# Altium footprint library KMR232NGULCLFS.PcbLib: 1 footprints
Each footprint in its own frame and in the unit in brackets; x right, y up, seen from the top. Pads: shape width x height; smd on the part's side, far side on the other; paste and mask are expansions set on the pad; w line width, h text height; cw(c..) or ccw(c..) is an arc to the next point about the centre after c.
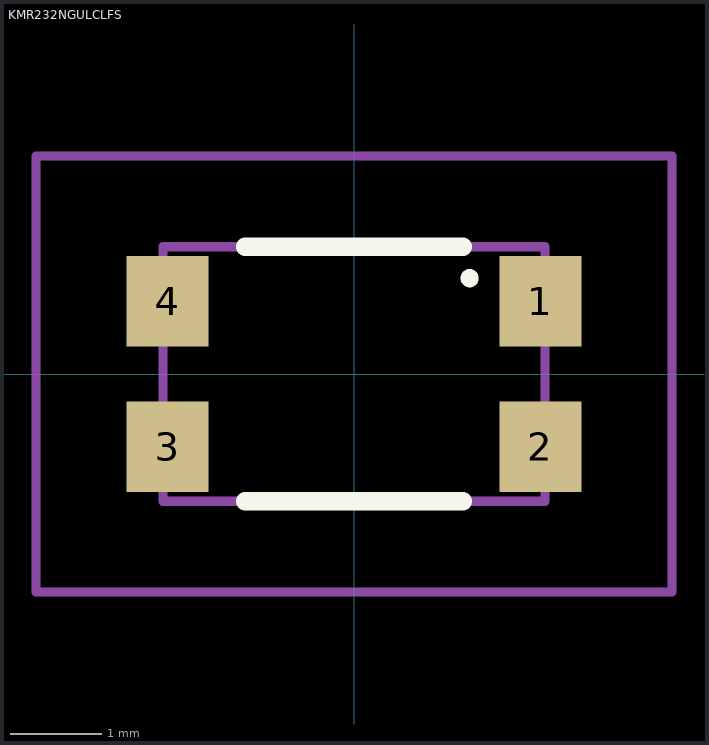
[diagram p0: the footprint, top view; thin cyan lines are the x and y axes]

## KMR232NGULCLFS [mm]
pads (4):
  rect 0.9x1 smd: 1(2.05,0.8) 2(2.05,-0.8) 3(-2.05,-0.8) 4(-2.05,0.8)
Top Overlay:
  lines w0.1: 1.222,1.054 cw(c1.272,1.054) 1.322,1.054 cw(c1.272,1.054) 1.222,1.054
  lines w0.2: -1.2,-1.4 1.2,-1.4 ; -1.2,1.4 1.2,1.4
Mechanical 15:
  lines w0.1: -2.1,-1.4 -2.1,1.4 2.1,1.4 2.1,-1.4 -2.1,-1.4
Mechanical 20:
  lines w0.1: -3.5,-2.4 -3.5,2.4 3.5,2.4 3.5,-2.4 -3.5,-2.4
3D body "KMR232NG_ULC_LFS.stp": height 1.92, standoff 0, extent -2.3,-1.397 2.3,1.403